# Altium integrated library TPS612592YFFR.IntLib: 2 symbols
Pins are listed as number, name and electrical type; pins without a type are passive.

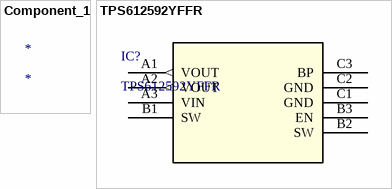
[diagram p0: symbols Component_1 to TPS612592YFFR]

## Component_1
designator *

## TPS612592YFFR
designator IC?
No Description Available; Mfr_Name: Texas Instruments; Copyright: Copyright (C) 2024 Ultra Librarian. All rights reserved.; Manufacturer_Part_Number: TPS612592YFFR; RefDes: RefDes; Type: DEV
footprint DSBGA09_1P206X1P306_TEX
pins: A1 VOUT (out), A2 VOUT (out), A3 VIN, B1 SW, B2 SW, B3 EN, C1 GND (power), C2 GND (power), C3 BP